# Altium schematic symbol library bolt_M2.SchLib: 1 symbol
Pins are listed as number, name and electrical type; pins without a type are passive.

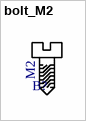
[diagram p0: symbol bolt_M2]

## bolt_M2
designator B?  (value not drawn)
footprint bolt_M2
pins: 20
text: M2